# Altium footprint library K50-35_oll_models.PcbLib: 12 footprints
Each footprint in its own frame and in the unit in brackets; x right, y up, seen from the top. Pads: shape width x height; smd on the part's side, far side on the other; paste and mask are expansions set on the pad; w line width, h text height; cw(c..) or ccw(c..) is an arc to the next point about the centre after c.
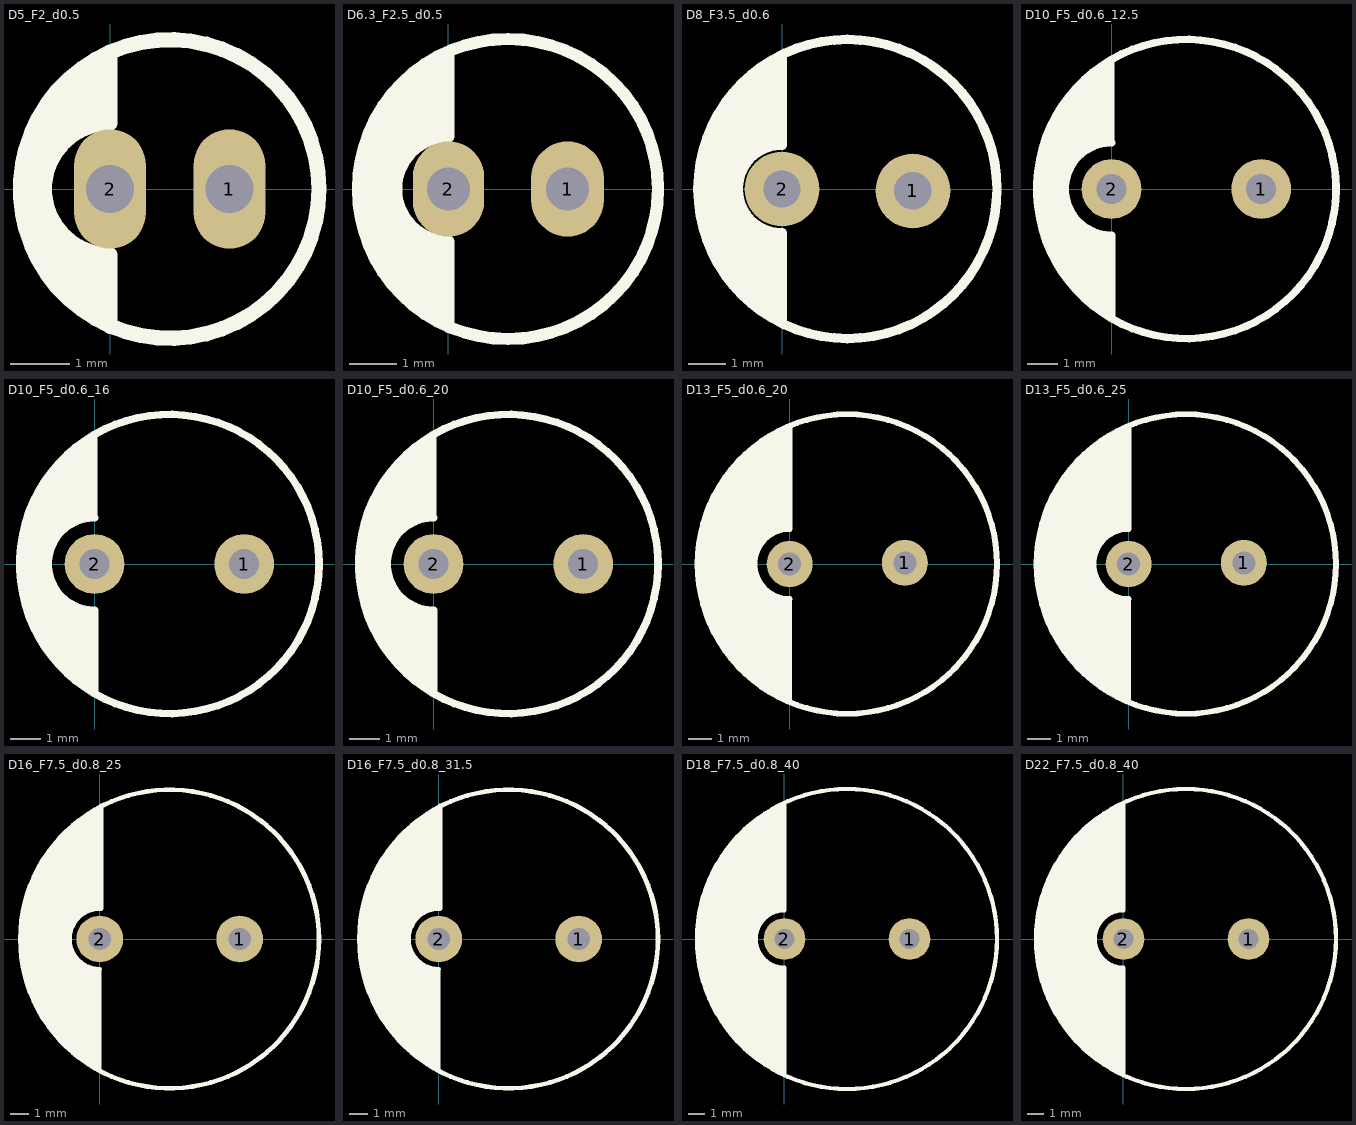
[diagram p0: the footprints below, top view; thin cyan lines are the x and y axes]

## D5_F2_d0.5 [mm]
pads (2):
  oval 1.2x2 hole 0.8: 1(2,0) 2(0,0)
Top Overlay:
  circle w0.254: c1,0 r2.5
  region: 0,2.2 0,1.1 -0.075,1.1 -0.1,1.075 -0.35,1.075 -0.425,1 -0.55,1 -0.6,0.95 -0.65,0.95 -0.725,0.875 -0.725,0.825 -0.85,0.7 -0.875,0.7 -0.95,0.625 -0.95,0.575 -1.05,0.475 -1.05,0.3 -1.125,0.225 -1.125,0.025 -1.15,0 -1.15,-0.275 -1,-0.425 -1,-0.45 -0.95,-0.5 -0.95,-0.6 -0.75,-0.8 -0.725,-0.8 -0.6,-0.925 -0.475,-0.925 -0.425,-0.975 -0.325,-0.975 -0.275,-1.025 -0.175,-1.025 -0.05,-1.15 0,-1.15 0,-2.275 -0.025,-2.25 -0.075,-2.25 -0.15,-2.175 -0.25,-2.175 -0.35,-2.075 -0.375,-2.075 -0.5,-1.95 -0.55,-1.95 -0.7,-1.8 -0.7,-1.775 -0.825,-1.65 -0.85,-1.65 -0.85,-1.625 -0.95,-1.525 -0.95,-1.5 -1.05,-1.4 -1.05,-1.375 -1.225,-1.2 -1.225,-1.15 -1.325,-1.05 -1.325,-0.95 -1.375,-0.9 -1.375,-0.75 -1.425,-0.7 -1.425,-0.525 -1.475,-0.475 -1.475,-0.25 -1.5,-0.225 -1.5,0 -1.525,0.025 -1.525,0.25 -1.5,0.275 -1.5,0.425 -1.425,0.5 -1.425,0.7 -1.375,0.75 -1.375,0.875 -1.275,0.975 -1.275,1.075 -1.175,1.175 -1.175,1.275 -1.1,1.35 -1.1,1.45 -1.025,1.525 -1,1.525 -0.75,1.775 -0.7,1.775 -0.625,1.85 -0.6,1.85 -0.6,1.9 -0.525,1.975 -0.525,2 -0.5,2 -0.4,2.1 -0.3,2.1 -0.225,2.175 -0.125,2.175 -0.05,2.25 0.025,2.25
  lines w0.254: 0,-2.3 0,-1.1 cw(c0,0) 0,1.1 0,2.2
3D body "body_5x11.stp": height 11.1, standoff -2.4, extent -1.5,-2.495 3.48,2.495

## D6.3_F2.5_d0.5 [mm]
pads (2):
  oval 1.524x2 hole 0.9: 1(2.5,0)
  oval 1.5x2 hole 0.9: 2(0,0)
Top Overlay:
  circle w0.254: c1.25,0 r3.15
  region: -0.1,2.9 -0.1,1.2 0,1.1 -0.4,1.1 -0.5,1 -0.6,1 -0.8,0.8 -0.8,0.7 -0.9,0.7 -0.9,0.6 -1,0.6 -1,0.5 -1.1,0.4 -1,0.4 -1,0.3 -1.1,0.2 -1.1,-0.3 -1,-0.4 -1,-0.5 -0.9,-0.6 -0.9,-0.7 -0.8,-0.7 -0.8,-0.8 -0.7,-0.9 -0.6,-0.9 -0.6,-1 -0.3,-1 -0.2,-1.1 0,-1.1 0,-2.9 -0.1,-2.8 -0.2,-2.8 -0.4,-2.6 -0.5,-2.6 -0.6,-2.5 -0.7,-2.5 -0.7,-2.4 -0.8,-2.4 -1,-2.2 -1,-2.1 -1.2,-1.9 -1.5,-1.6 -1.5,-1.5 -1.6,-1.4 -1.6,-1.3 -1.7,-1.2 -1.7,-1 -1.8,-0.9 -1.8,-0.5 -1.9,-0.4 -1.9,0.5 -1.8,0.6 -1.8,0.9 -1.7,1 -1.7,1.2 -1.6,1.3 -1.6,1.6 -1.5,1.7 -1.4,1.7 -1.4,1.9 -1.3,1.9 -1.2,2 -0.9,2.3 -0.9,2.4 -0.7,2.6 -0.5,2.6 -0.4,2.7 -0.3,2.7 -0.3,2.8 0,2.8
  lines w0.254: 0,-2.9 0,-1.1 cw(c0,0) 0,1.1 0,2.8
3D body "body_6.3x11.stp": height 11.1, standoff -2.4, extent -1.9,-3.144 4.375,3.144

## D8_F3.5_d0.6 [mm]
pads (2):
  round 2 hole 1: 1(3.5,-0.05) 2(0,0)
Top Overlay:
  circle w0.254: c1.75,0 r4
  region: 0,3.525 0,1.2 -0.175,1.2 -0.2,1.175 -0.35,1.175 -0.45,1.075 -0.525,1.075 -0.65,0.95 -0.75,0.95 -0.75,0.925 -1.05,0.625 -1.05,0.425 -1.175,0.3 -1.175,-0.125 -1.1,-0.2 -1.1,-0.525 -1.05,-0.525 -1.05,-0.575 -0.925,-0.7 -0.925,-0.725 -0.875,-0.775 -0.875,-0.8 -0.825,-0.8 -0.775,-0.85 -0.75,-0.85 -0.575,-1.025 -0.525,-1.025 -0.475,-1.075 -0.3,-1.075 -0.2,-1.175 -0.025,-1.175 0,-1.2 0,-3.575 -0.075,-3.575 -0.175,-3.475 -0.325,-3.475 -0.525,-3.275 -0.575,-3.275 -0.575,-3.225 -0.8,-3 -0.9,-3 -0.9,-2.975 -1.025,-2.85 -1.025,-2.825 -1.075,-2.825 -1.2,-2.7 -1.225,-2.7 -1.225,-2.65 -1.525,-2.35 -1.525,-2.275 -1.725,-2.075 -1.75,-2.075 -1.75,-1.9 -1.9,-1.75 -1.9,-1.65 -1.925,-1.625 -1.925,-1.5 -2.05,-1.375 -2.05,-1.2 -2.125,-1.125 -2.125,-0.875 -2.2,-0.8 -2.2,-0.65 -2.25,-0.6 -2.25,-0.25 -2.275,-0.225 -2.275,0.5 -2.175,0.6 -2.175,1.025 -2.125,1.075 -2.125,1.275 -2,1.4 -2,1.525 -1.825,1.7 -1.825,1.95 -1.675,2.1 -1.675,2.25 -1.5,2.425 -1.5,2.475 -1.35,2.625 -1.25,2.625 -1.05,2.825 -1.05,2.925 -0.875,3.1 -0.8,3.1 -0.775,3.125 -0.75,3.125 -0.575,3.3 -0.475,3.3 -0.425,3.35 -0.35,3.35 -0.25,3.45 -0.175,3.45 -0.05,3.575 -0.025,3.575
  lines w0.254: 0,-3.575 0,-1.175 cw(c0,0) 0,1.175 0,3.575
3D body "body_8x11.5.stp": height 11.6, standoff -2.4, extent -2.25,-3.992 5.719,3.992

## D10_F5_d0.6_12.5 [mm]
pads (2):
  round 2 hole 1: 1(5,0) 2(0,0)
Top Overlay:
  circle w0.254: c2.5,0 r5
  region: -0.025,4.225 -0.025,1.675 -0.125,1.575 -0.3,1.575 -0.375,1.5 -0.425,1.5 -0.45,1.475 -0.525,1.475 -0.6,1.4 -0.675,1.4 -0.75,1.325 -0.825,1.325 -0.925,1.225 -0.95,1.225 -1,1.175 -1.025,1.175 -1.1,1.1 -1.2,1 -1.2,0.975 -1.325,0.85 -1.325,0.825 -1.35,0.825 -1.425,0.75 -1.425,0.5 -1.525,0.4 -1.525,0.275 -1.55,0.25 -1.55,-0.15 -1.525,-0.175 -1.525,-0.2 -1.45,-0.275 -1.45,-0.45 -1.425,-0.475 -1.425,-0.55 -1.275,-0.7 -1.275,-0.9 -1.125,-1.05 -1.125,-1.075 -1.1,-1.1 -1.05,-1.1 -1,-1.15 -0.95,-1.15 -0.925,-1.175 -0.925,-1.2 -0.85,-1.275 -0.85,-1.3 -0.775,-1.3 -0.7,-1.375 -0.5,-1.375 -0.475,-1.4 -0.4,-1.4 -0.4,-1.425 -0.375,-1.45 -0.3,-1.45 -0.225,-1.525 -0.1,-1.525 0,-1.625 0,-1.925 -0.025,-1.95 -0.025,-4.3 -0.05,-4.325 -0.2,-4.175 -0.275,-4.175 -0.475,-3.975 -0.6,-3.975 -0.75,-3.825 -0.8,-3.825 -1.1,-3.525 -1.1,-3.425 -1.3,-3.225 -1.3,-3.175 -1.5,-2.975 -1.525,-2.975 -1.525,-2.95 -1.7,-2.775 -1.7,-2.625 -1.9,-2.425 -1.9,-2.375 -2,-2.275 -2,-2.05 -2.125,-1.925 -2.125,-1.775 -2.225,-1.675 -2.225,-1.525 -2.375,-1.375 -2.375,-1.175 -2.45,-1.1 -2.45,-0.775 -2.5,-0.725 -2.5,-0.6 -2.525,-0.575 -2.525,0.375 -2.45,0.45 -2.475,0.475 -2.475,0.925 -2.5,0.95 -2.325,1.125 -2.325,1.725 -2.125,1.925 -2.125,1.975 -1.975,2.125 -1.975,2.3 -1.8,2.475 -1.8,2.55 -1.65,2.7 -1.65,2.9 -1.5,3.05 -1.5,3.075 -1.35,3.225 -1.35,3.25 -1.2,3.4 -1.15,3.4 -0.925,3.625 -0.9,3.625 -0.825,3.7 -0.825,3.725 -0.75,3.8 -0.725,3.8 -0.475,4.05 -0.425,4.05 -0.35,4.125 -0.125,4.125 -0.05,4.2
  lines w0.254: -0.025,4.3 -0.025,1.55 0,1.55 ccw(c0,0) 0,-1.55 0,-4.275
3D body "body_10x12.5.stp": height 12.6, standoff -2.4, extent -2.5,-4.99 7.461,4.99

## D10_F5_d0.6_16 [mm]
pads (2):
  round 2 hole 1: 1(5,0) 2(0,0)
Top Overlay:
  circle w0.254: c2.5,0 r5
  region: -0.025,4.225 -0.025,1.675 -0.125,1.575 -0.3,1.575 -0.375,1.5 -0.425,1.5 -0.45,1.475 -0.525,1.475 -0.6,1.4 -0.675,1.4 -0.75,1.325 -0.825,1.325 -0.925,1.225 -0.95,1.225 -1,1.175 -1.025,1.175 -1.1,1.1 -1.2,1 -1.2,0.975 -1.325,0.85 -1.325,0.825 -1.35,0.825 -1.425,0.75 -1.425,0.5 -1.525,0.4 -1.525,0.275 -1.55,0.25 -1.55,-0.15 -1.525,-0.175 -1.525,-0.2 -1.45,-0.275 -1.45,-0.45 -1.425,-0.475 -1.425,-0.55 -1.275,-0.7 -1.275,-0.9 -1.125,-1.05 -1.125,-1.075 -1.1,-1.1 -1.05,-1.1 -1,-1.15 -0.95,-1.15 -0.925,-1.175 -0.925,-1.2 -0.85,-1.275 -0.85,-1.3 -0.775,-1.3 -0.7,-1.375 -0.5,-1.375 -0.475,-1.4 -0.4,-1.4 -0.4,-1.425 -0.375,-1.45 -0.3,-1.45 -0.225,-1.525 -0.1,-1.525 0,-1.625 0,-1.925 -0.025,-1.95 -0.025,-4.3 -0.05,-4.325 -0.2,-4.175 -0.275,-4.175 -0.475,-3.975 -0.6,-3.975 -0.75,-3.825 -0.8,-3.825 -1.1,-3.525 -1.1,-3.425 -1.3,-3.225 -1.3,-3.175 -1.5,-2.975 -1.525,-2.975 -1.525,-2.95 -1.7,-2.775 -1.7,-2.625 -1.9,-2.425 -1.9,-2.375 -2,-2.275 -2,-2.05 -2.125,-1.925 -2.125,-1.775 -2.225,-1.675 -2.225,-1.525 -2.375,-1.375 -2.375,-1.175 -2.45,-1.1 -2.45,-0.775 -2.5,-0.725 -2.5,-0.6 -2.525,-0.575 -2.525,0.375 -2.45,0.45 -2.475,0.475 -2.475,0.925 -2.5,0.95 -2.325,1.125 -2.325,1.725 -2.125,1.925 -2.125,1.975 -1.975,2.125 -1.975,2.3 -1.8,2.475 -1.8,2.55 -1.65,2.7 -1.65,2.9 -1.5,3.05 -1.5,3.075 -1.35,3.225 -1.35,3.25 -1.2,3.4 -1.15,3.4 -0.925,3.625 -0.9,3.625 -0.825,3.7 -0.825,3.725 -0.75,3.8 -0.725,3.8 -0.475,4.05 -0.425,4.05 -0.35,4.125 -0.125,4.125 -0.05,4.2
  lines w0.254: -0.025,4.3 -0.025,1.55 0,1.55 ccw(c0,0) 0,-1.55 0,-4.275
3D body "body_10x16.stp": height 16.1, standoff -2.4, extent -2.5,-4.99 7.461,4.99

## D10_F5_d0.6_20 [mm]
pads (2):
  round 2 hole 1: 1(5,0) 2(0,0)
Top Overlay:
  circle w0.254: c2.5,0 r5
  region: -0.025,4.225 -0.025,1.675 -0.125,1.575 -0.3,1.575 -0.375,1.5 -0.425,1.5 -0.45,1.475 -0.525,1.475 -0.6,1.4 -0.675,1.4 -0.75,1.325 -0.825,1.325 -0.925,1.225 -0.95,1.225 -1,1.175 -1.025,1.175 -1.1,1.1 -1.2,1 -1.2,0.975 -1.325,0.85 -1.325,0.825 -1.35,0.825 -1.425,0.75 -1.425,0.5 -1.525,0.4 -1.525,0.275 -1.55,0.25 -1.55,-0.15 -1.525,-0.175 -1.525,-0.2 -1.45,-0.275 -1.45,-0.45 -1.425,-0.475 -1.425,-0.55 -1.275,-0.7 -1.275,-0.9 -1.125,-1.05 -1.125,-1.075 -1.1,-1.1 -1.05,-1.1 -1,-1.15 -0.95,-1.15 -0.925,-1.175 -0.925,-1.2 -0.85,-1.275 -0.85,-1.3 -0.775,-1.3 -0.7,-1.375 -0.5,-1.375 -0.475,-1.4 -0.4,-1.4 -0.4,-1.425 -0.375,-1.45 -0.3,-1.45 -0.225,-1.525 -0.1,-1.525 0,-1.625 0,-1.925 -0.025,-1.95 -0.025,-4.3 -0.05,-4.325 -0.2,-4.175 -0.275,-4.175 -0.475,-3.975 -0.6,-3.975 -0.75,-3.825 -0.8,-3.825 -1.1,-3.525 -1.1,-3.425 -1.3,-3.225 -1.3,-3.175 -1.5,-2.975 -1.525,-2.975 -1.525,-2.95 -1.7,-2.775 -1.7,-2.625 -1.9,-2.425 -1.9,-2.375 -2,-2.275 -2,-2.05 -2.125,-1.925 -2.125,-1.775 -2.225,-1.675 -2.225,-1.525 -2.375,-1.375 -2.375,-1.175 -2.45,-1.1 -2.45,-0.775 -2.5,-0.725 -2.5,-0.6 -2.525,-0.575 -2.525,0.375 -2.45,0.45 -2.475,0.475 -2.475,0.925 -2.5,0.95 -2.325,1.125 -2.325,1.725 -2.125,1.925 -2.125,1.975 -1.975,2.125 -1.975,2.3 -1.8,2.475 -1.8,2.55 -1.65,2.7 -1.65,2.9 -1.5,3.05 -1.5,3.075 -1.35,3.225 -1.35,3.25 -1.2,3.4 -1.15,3.4 -0.925,3.625 -0.9,3.625 -0.825,3.7 -0.825,3.725 -0.75,3.8 -0.725,3.8 -0.475,4.05 -0.425,4.05 -0.35,4.125 -0.125,4.125 -0.05,4.2
  lines w0.254: -0.025,4.3 -0.025,1.55 0,1.55 ccw(c0,0) 0,-1.55 0,-4.275
3D body "body_10x20.stp": height 20.1, standoff -2.4, extent -2.5,-4.99 7.461,4.99

## D13_F5_d0.6_20 [mm]
pads (2):
  round 2 hole 1: 1(5,0.05) 2(0,0)
Top Overlay:
  drawing of 6 lines, arcs and shapes, not listed
3D body "body_13x20.stp": height 20.1, standoff -2.4, extent -4,-6.487 8.949,6.487

## D13_F5_d0.6_25 [mm]
pads (2):
  round 2 hole 1: 1(5,0.05) 2(0,0)
Top Overlay:
  drawing of 6 lines, arcs and shapes, not listed
3D body "body_13x25.stp": height 25.1, standoff -2.4, extent -3.975,-6.462 8.974,6.512

## D16_F7.5_d0.8_25 [mm]
pads (2):
  round 2.5 hole 1.2: 1(7.5,0) 2(0,0)
Top Overlay:
  circle w0.254: c3.75,0 r8
  region: 0.075,7.025 0.075,1.725 0.025,1.725 -0.125,1.575 -0.4,1.575 -0.5,1.475 -0.65,1.475 -0.75,1.375 -1.075,1.375 -1.35,1.1 -1.35,0.775 -1.45,0.675 -1.45,0.6 -1.55,0.5 -1.55,0.35 -1.575,0.325 -1.575,0.05 -1.6,0.025 -1.6,-0.125 -1.55,-0.175 -1.55,-0.7 -1.45,-0.8 -1.35,-0.8 -1.2,-0.95 -1.2,-1.025 -1.025,-1.2 -0.9,-1.2 -0.725,-1.375 -0.6,-1.375 -0.425,-1.55 -0.2,-1.55 -0.1,-1.65 -0.1,-1.725 -0.025,-1.8 -0.025,-6.925 -0.075,-6.975 -0.15,-6.9 -0.425,-6.9 -0.7,-6.625 -0.8,-6.625 -0.95,-6.475 -0.95,-6.425 -1.025,-6.425 -1.225,-6.225 -1.35,-6.225 -1.35,-6.175 -1.7,-5.825 -1.975,-5.55 -1.975,-5.45 -2,-5.45 -2.4,-5.05 -2.5,-5.05 -2.65,-4.9 -2.65,-4.775 -2.775,-4.65 -2.775,-4.575 -2.875,-4.475 -2.875,-4.375 -3.025,-4.225 -3.025,-4.15 -3.2,-3.975 -3.2,-3.85 -3.375,-3.675 -3.375,-3.55 -3.55,-3.375 -3.55,-3.175 -3.65,-3.075 -3.65,-3 -3.675,-2.975 -3.675,-2.8 -3.8,-2.675 -3.8,-2.525 -3.825,-2.5 -3.825,-2.2 -4,-2.025 -4,-1.95 -4.05,-1.9 -4.05,-1.625 -4.15,-1.525 -4.15,-1.2 -4.2,-1.15 -4.2,-0.825 -4.175,-0.8 -4.175,-0.375 -4.225,-0.325 -4.225,0.2 -4.325,0.3 -4.3,0.325 -4.3,0.65 -4.2,0.75 -4.2,1.05 -4.1,1.15 -4.1,1.625 -4.075,1.65 -4.075,1.75 -3.9,1.925 -3.9,2.225 -3.825,2.3 -3.825,2.6 -3.725,2.7 -3.725,2.825 -3.55,3 -3.55,3.225 -3.375,3.4 -3.375,3.65 -3.3,3.725 -3.3,3.95 -3.15,4.1 -3.15,4.175 -2.975,4.35 -2.975,4.4 -2.925,4.4 -2.725,4.6 -2.725,4.725 -2.375,5.075 -2.375,5.175 -2.225,5.325 -2.225,5.375 -1.9,5.7 -1.725,5.7 -1.375,6.05 -1.375,6.225 -1.1,6.5 -0.825,6.5 -0.625,6.7 -0.5,6.7 -0.2,7 -0.025,7 0,7.025 0.05,6.975 0.125,6.975
  lines w0.254: -0.025,-7 -0.025,-1.625 0,-1.625 cw(c0,0) 0.025,1.625 0.075,1.625 0.075,7.125
3D body "body_16x25.stp": height 25.1, standoff -2.4, extent -4.25,-7.984 11.687,7.984

## D16_F7.5_d0.8_31.5 [mm]
pads (2):
  round 2.5 hole 1.2: 1(7.5,0) 2(0,0)
Top Overlay:
  circle w0.254: c3.75,0 r8
  region: 0.075,7.025 0.075,1.725 0.025,1.725 -0.125,1.575 -0.4,1.575 -0.5,1.475 -0.65,1.475 -0.75,1.375 -1.075,1.375 -1.35,1.1 -1.35,0.775 -1.45,0.675 -1.45,0.6 -1.55,0.5 -1.55,0.35 -1.575,0.325 -1.575,0.05 -1.6,0.025 -1.6,-0.125 -1.55,-0.175 -1.55,-0.7 -1.45,-0.8 -1.35,-0.8 -1.2,-0.95 -1.2,-1.025 -1.025,-1.2 -0.9,-1.2 -0.725,-1.375 -0.6,-1.375 -0.425,-1.55 -0.2,-1.55 -0.1,-1.65 -0.1,-1.725 -0.025,-1.8 -0.025,-6.925 -0.075,-6.975 -0.15,-6.9 -0.425,-6.9 -0.7,-6.625 -0.8,-6.625 -0.95,-6.475 -0.95,-6.425 -1.025,-6.425 -1.225,-6.225 -1.35,-6.225 -1.35,-6.175 -1.7,-5.825 -1.975,-5.55 -1.975,-5.45 -2,-5.45 -2.4,-5.05 -2.5,-5.05 -2.65,-4.9 -2.65,-4.775 -2.775,-4.65 -2.775,-4.575 -2.875,-4.475 -2.875,-4.375 -3.025,-4.225 -3.025,-4.15 -3.2,-3.975 -3.2,-3.85 -3.375,-3.675 -3.375,-3.55 -3.55,-3.375 -3.55,-3.175 -3.65,-3.075 -3.65,-3 -3.675,-2.975 -3.675,-2.8 -3.8,-2.675 -3.8,-2.525 -3.825,-2.5 -3.825,-2.2 -4,-2.025 -4,-1.95 -4.05,-1.9 -4.05,-1.625 -4.15,-1.525 -4.15,-1.2 -4.2,-1.15 -4.2,-0.825 -4.175,-0.8 -4.175,-0.375 -4.225,-0.325 -4.225,0.2 -4.325,0.3 -4.3,0.325 -4.3,0.65 -4.2,0.75 -4.2,1.05 -4.1,1.15 -4.1,1.625 -4.075,1.65 -4.075,1.75 -3.9,1.925 -3.9,2.225 -3.825,2.3 -3.825,2.6 -3.725,2.7 -3.725,2.825 -3.55,3 -3.55,3.225 -3.375,3.4 -3.375,3.65 -3.3,3.725 -3.3,3.95 -3.15,4.1 -3.15,4.175 -2.975,4.35 -2.975,4.4 -2.925,4.4 -2.725,4.6 -2.725,4.725 -2.375,5.075 -2.375,5.175 -2.225,5.325 -2.225,5.375 -1.9,5.7 -1.725,5.7 -1.375,6.05 -1.375,6.225 -1.1,6.5 -0.825,6.5 -0.625,6.7 -0.5,6.7 -0.2,7 -0.025,7 0,7.025 0.05,6.975 0.125,6.975
  lines w0.254: -0.025,-7 -0.025,-1.625 0,-1.625 cw(c0,0) 0.025,1.625 0.075,1.625 0.075,7.125
3D body "body_16x31.5.stp": height 31.6, standoff -2.4, extent -4.2,-7.984 11.737,7.984

## D18_F7.5_d0.8_40 [mm]
pads (2):
  round 2.5 hole 1.2: 1(7.5,0) 2(0,0)
Top Overlay:
  circle w0.254: c3.75,0 r9
  region: 0,8.125 0,1.775 -0.025,1.75 -0.225,1.75 -0.3,1.675 -0.4,1.675 -0.45,1.625 -0.575,1.625 -0.7,1.5 -0.85,1.5 -1.05,1.3 -1.075,1.3 -1.35,1.025 -1.375,1.025 -1.55,0.85 -1.55,0.675 -1.675,0.55 -1.675,0.45 -1.75,0.375 -1.75,-0.175 -1.675,-0.25 -1.675,-0.5 -1.55,-0.625 -1.55,-0.8 -1.375,-0.975 -1.375,-1.075 -1.25,-1.2 -1.25,-1.225 -1.2,-1.225 -1.05,-1.375 -1,-1.375 -0.9,-1.475 -0.825,-1.475 -0.725,-1.575 -0.625,-1.575 -0.575,-1.625 -0.4,-1.625 -0.35,-1.675 -0.025,-1.675 -0.025,-1.775 -0.05,-1.8 0,-1.85 0,-8.175 -0.225,-7.95 -0.55,-7.95 -0.775,-7.725 -0.9,-7.725 -1.225,-7.4 -1.35,-7.4 -1.6,-7.15 -1.725,-7.15 -1.725,-7.1 -1.95,-6.875 -2.075,-6.875 -2.275,-6.675 -2.35,-6.675 -2.6,-6.425 -2.625,-6.425 -2.975,-6.075 -2.975,-6 -3.175,-5.8 -3.175,-5.7 -3.425,-5.45 -3.425,-5.35 -3.65,-5.125 -3.65,-5.025 -3.675,-5.025 -3.8,-4.9 -3.8,-4.75 -4,-4.55 -4,-4.5 -4.2,-4.3 -4.2,-4.1 -4.325,-3.975 -4.325,-3.85 -4.45,-3.725 -4.45,-3.6 -4.575,-3.475 -4.575,-3.3 -4.725,-3.15 -4.725,-2.85 -4.9,-2.675 -4.9,-2.4 -4.975,-2.325 -4.975,-2 -5.1,-1.875 -5.1,-0.725 -5.15,-0.675 -5.15,0.15 -5.2,0.2 -5.2,0.475 -5.125,0.55 -5.125,1.125 -5.1,1.15 -5.1,1.375 -5.05,1.425 -5.05,1.9 -4.925,2.025 -4.925,2.3 -4.825,2.4 -4.825,2.575 -4.775,2.625 -4.775,3 -4.625,3.15 -4.625,3.4 -4.425,3.6 -4.425,3.8 -4.3,3.925 -4.3,4.05 -4.05,4.3 -4.05,4.575 -3.7,4.925 -3.7,5.05 -3.575,5.175 -3.575,5.225 -3.175,5.625 -3.175,5.75 -2.95,5.975 -2.95,6 -2.55,6.4 -2.55,6.475 -2.45,6.475 -2.2,6.725 -2.2,6.75 -2.125,6.75 -1.95,6.925 -1.95,7.025 -1.8,7.025 -1.525,7.3 -1.35,7.3 -1,7.65 -0.9,7.65 -0.725,7.825 -0.6,7.825 -0.425,8 -0.25,8 -0.125,8.125
  lines w0.254: -0.025,-1.725 0,-1.725 ; 0,-8.175 0,-1.725 ; 0,8.15 0,1.725 ccw(c0,0) 0,-1.725
3D body "body_18x40.stp": height 35.6, standoff -2.4, extent -4.225,-7.984 11.712,7.984

## D22_F7.5_d0.8_40 [mm]
pads (2):
  round 2.5 hole 1.2: 1(7.5,0) 2(0,0)
Top Overlay:
  circle w0.254: c3.75,0 r9
  region: 0,8.125 0,1.775 -0.025,1.75 -0.225,1.75 -0.3,1.675 -0.4,1.675 -0.45,1.625 -0.575,1.625 -0.7,1.5 -0.85,1.5 -1.05,1.3 -1.075,1.3 -1.35,1.025 -1.375,1.025 -1.55,0.85 -1.55,0.675 -1.675,0.55 -1.675,0.45 -1.75,0.375 -1.75,-0.175 -1.675,-0.25 -1.675,-0.5 -1.55,-0.625 -1.55,-0.8 -1.375,-0.975 -1.375,-1.075 -1.25,-1.2 -1.25,-1.225 -1.2,-1.225 -1.05,-1.375 -1,-1.375 -0.9,-1.475 -0.825,-1.475 -0.725,-1.575 -0.625,-1.575 -0.575,-1.625 -0.4,-1.625 -0.35,-1.675 -0.025,-1.675 -0.025,-1.775 -0.05,-1.8 0,-1.85 0,-8.175 -0.225,-7.95 -0.55,-7.95 -0.775,-7.725 -0.9,-7.725 -1.225,-7.4 -1.35,-7.4 -1.6,-7.15 -1.725,-7.15 -1.725,-7.1 -1.95,-6.875 -2.075,-6.875 -2.275,-6.675 -2.35,-6.675 -2.6,-6.425 -2.625,-6.425 -2.975,-6.075 -2.975,-6 -3.175,-5.8 -3.175,-5.7 -3.425,-5.45 -3.425,-5.35 -3.65,-5.125 -3.65,-5.025 -3.675,-5.025 -3.8,-4.9 -3.8,-4.75 -4,-4.55 -4,-4.5 -4.2,-4.3 -4.2,-4.1 -4.325,-3.975 -4.325,-3.85 -4.45,-3.725 -4.45,-3.6 -4.575,-3.475 -4.575,-3.3 -4.725,-3.15 -4.725,-2.85 -4.9,-2.675 -4.9,-2.4 -4.975,-2.325 -4.975,-2 -5.1,-1.875 -5.1,-0.725 -5.15,-0.675 -5.15,0.15 -5.2,0.2 -5.2,0.475 -5.125,0.55 -5.125,1.125 -5.1,1.15 -5.1,1.375 -5.05,1.425 -5.05,1.9 -4.925,2.025 -4.925,2.3 -4.825,2.4 -4.825,2.575 -4.775,2.625 -4.775,3 -4.625,3.15 -4.625,3.4 -4.425,3.6 -4.425,3.8 -4.3,3.925 -4.3,4.05 -4.05,4.3 -4.05,4.575 -3.7,4.925 -3.7,5.05 -3.575,5.175 -3.575,5.225 -3.175,5.625 -3.175,5.75 -2.95,5.975 -2.95,6 -2.55,6.4 -2.55,6.475 -2.45,6.475 -2.2,6.725 -2.2,6.75 -2.125,6.75 -1.95,6.925 -1.95,7.025 -1.8,7.025 -1.525,7.3 -1.35,7.3 -1,7.65 -0.9,7.65 -0.725,7.825 -0.6,7.825 -0.425,8 -0.25,8 -0.125,8.125
  lines w0.254: -0.025,-1.725 0,-1.725 ; 0,-8.175 0,-1.725 ; 0,8.15 0,1.725 ccw(c0,0) 0,-1.725
3D body "body_22x40.stp": height 40.1, standoff -2.4, extent -5.25,-8.982 12.679,8.982